# EAGLE library part MAX4820 (library 1_Robo-Lib)
The MAX4820/MAX4821 8-channel relay drivers offer built-in kickback protection and drive +3.3V/+5V non- latching or dual-coil-latching relays. These devices are especially useful when driving +3V relays. Each inde- pendent open-drain output features a 2 Ω on-resistance and is guaranteed to sink 70mA (min) of load current. Both devices consume less than 50µA (max) quiescent current and have 1µA output off-leakage current. The MAX4820 features an SPI™-/QSPI™-/MICROWIRE™- compatible serial interface. Input data is shifted into an 8- bit shift register and latched to the outputs when CS transitions from low to high. Each data bit in the shift reg- ister corresponds to a specific output, allowing indepen- dent control of all outputs. ♦8 Independent Output Channels ♦ Built-In Inductive Kickback Protection ♦ Drive +3V and +5V Relays ♦ Guaranteed 70mA (min) Coil Drive Current ♦ SET Function to Turn On All Outputs Simultaneously ♦ RESETFunction to Turn Off All Outputs Simultaneously ♦ SPI-/QSPI-/MICROWIRE-Compatible Serial Interface (MAX4820) ♦ Serial Digital Output for Daisy Chaining (MAX4820) ♦ Low 50µA (max) Quiescent Supply Current ♦ Space-Saving 20-Pin Thin QFN Package
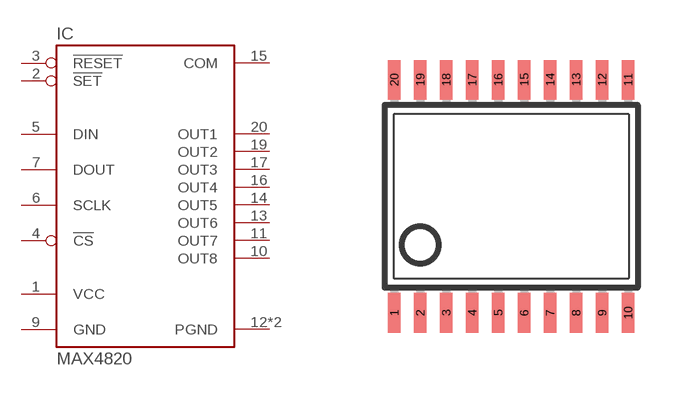
[diagram p2: symbol with the pads of TSSOP20; footprint TSSOP20]

Designator prefix IC

## MAX4820 (MPN: MAX4820)  [TSSOP20]
1  VCC  pwr
2  !SET
3  !RESET
4  !CS
5  DIN
6  SCLK
7  DOUT
9  GND  pwr
10  OUT8
11  OUT7
12  PGND  pwr
13  OUT6
14  OUT5
15  COM  pwr
16  OUT4
17  OUT3
18  PGND  pwr
19  OUT2
20  OUT1

## Footprint TSSOP20 (pad centres in mm)
Thin Shrink Small Outline Plastic 20 MAX3223-MAX3243.pdf
smd 0.305 x 0.991: 1 -2.925,-2.918; 2 -2.275,-2.918; 3 -1.625,-2.918; 4 -0.975,-2.918; 5 -0.325,-2.918; 6 0.325,-2.918; 7 0.975,-2.918; 8 1.625,-2.918; 9 2.275,-2.918; 10 2.925,-2.918; 11 2.925,2.918; 12 2.275,2.918; 13 1.625,2.918; 14 0.975,2.918; 15 0.325,2.918; 16 -0.325,2.918; 17 -0.975,2.918; 18 -1.625,2.918; 19 -2.275,2.918; 20 -2.925,2.918